# Altium schematic symbol library Schlib-zasilanie.SchLib: 10 symbols
Pins are listed as number, name and electrical type; pins without a type are passive.

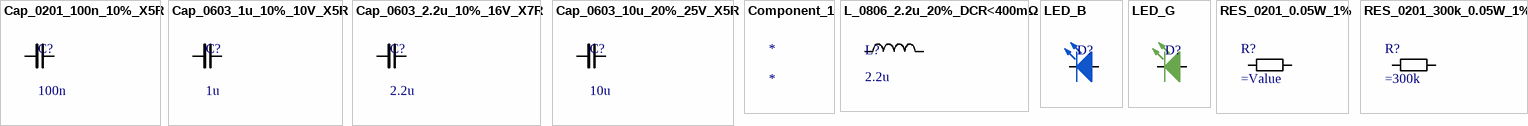
[diagram p0: symbols Cap_0201_100n_10%_X5R to RES_0201_300k_0.05W_1%]

## Cap_0201_100n_10%_X5R
designator C?, comment 100n
Ceramic capacitor
pins: 1, 2

## Cap_0603_1u_10%_10V_X5R
designator C?, comment 1u
Ceramic capacitor
pins: 1, 2

## Cap_0603_2.2u_10%_16V_X7R
designator C?, comment 2.2u
Ceramic capacitor
pins: 1, 2

## Cap_0603_10u_20%_25V_X5R
designator C?, comment 10u
Ceramic capacitor
pins: 1, 2

## Component_1
designator *

## L_0806_2.2u_20%_DCR<400mΩ
designator L?, comment 2.2u
Inductor
pins: 1, 2

## LED_B
designator D?
pins: 1 A, 2 K

## LED_G
designator D?
pins: 1 A, 2 K

## RES_0201_0.05W_1%
designator R?
Resistor, optional pull-up resistors for TWI, dependent on bus speed and parasitic capacitances
pins: 1, 2
1 alternate drawing of the same symbol

## RES_0201_300k_0.05W_1%
designator R?
Resistor
pins: 1, 2
1 alternate drawing of the same symbol